# Altium schematic symbol library KGM21NR71H104JT.SchLib: 2 symbols
Pins are listed as number, name and electrical type; pins without a type are passive.

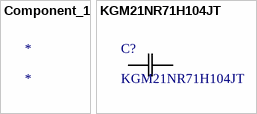
[diagram p0: symbols Component_1 to KGM21NR71H104JT]

## Component_1
designator *

## KGM21NR71H104JT
designator C?
No Description Available; Mfr_Name: KYOCERA AVX; Type: DEV; Copyright: Copyright (C) 2023 Ultra Librarian. All rights reserved.; Manufacturer_Part_Number: KGM21NR71H104JT; RefDes: RefDes
footprint CAP_KGM21_KAV
pins: 1, 2